# Altium schematic symbol library AD9914BCPZ.SchLib: 1 symbol
Pins are listed as number, name and electrical type; pins without a type are passive.

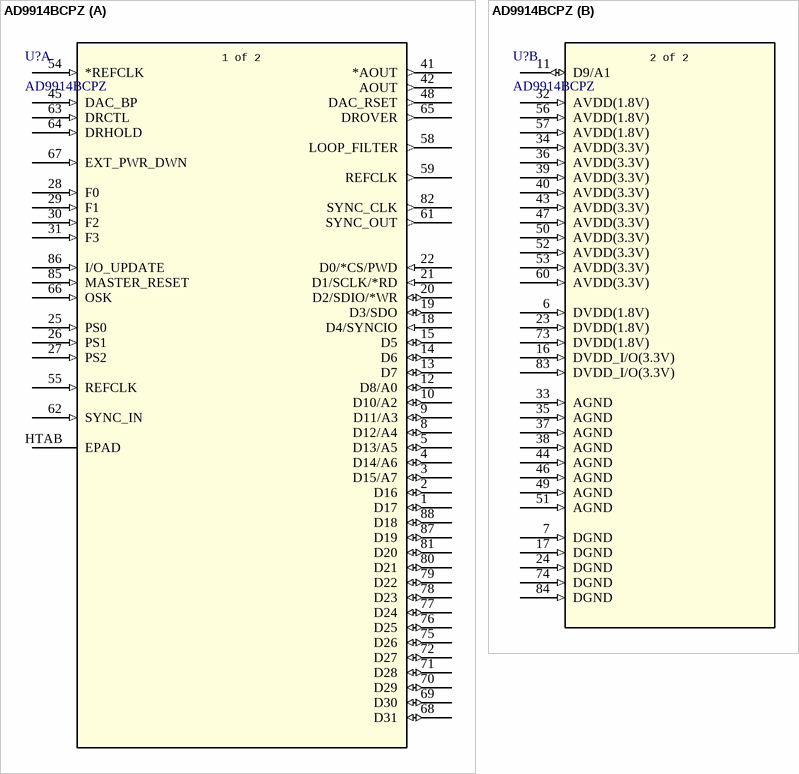
[diagram p0: symbol AD9914BCPZ]

## AD9914BCPZ
designator U?
3.5 GSPS Direct Digital Synthesizer with 12-bit DAC; Manufacturer_Name: Analog Devices Inc; Copyright: Copyright (C) 2026 Ultra Librarian. All rights reserved.; Manufacturer_Part_Number: AD9914BCPZ; Datasheet: https://www.analog.com/media/en/technical-documentation/data-sheets/AD9914.pdf; RefDes: RefDes; Type: Type
footprint CP_88_5_ADI
part A pins: 1 D17 (io), 2 D16 (io), 3 D15/A7 (io), 4 D14/A6 (io), 5 D13/A5 (io), 8 D12/A4 (io), 9 D11/A3 (io), 10 D10/A2 (io), 12 D8/A0 (io), 13 D7 (io), 14 D6 (io), 15 D5 (io), 18 D4/SYNCIO (in), 19 D3/SDO (io), 20 D2/SDIO/*WR (io), 21 D1/SCLK/*RD (in), 22 D0/*CS/PWD (in), 25 PS0 (in), 26 PS1 (in), 27 PS2 (in), 28 F0 (in), 29 F1 (in), 30 F2 (in), 31 F3 (in), 41 *AOUT (out), 42 AOUT (out), 45 DAC_BP (in), 48 DAC_RSET (out), 54 *REFCLK (in), 55 REFCLK (in), 58 LOOP_FILTER (out), 59 REFCLK (out), 61 SYNC_OUT (out), 62 SYNC_IN (in), 63 DRCTL (in), 64 DRHOLD (in), 65 DROVER (out), 66 OSK (in), 67 EXT_PWR_DWN (in), 68 D31 (io), 69 D30 (io), 70 D29 (io), 71 D28 (io), 72 D27 (io), 75 D26 (io), 76 D25 (io), 77 D24 (io), 78 D23 (io), 79 D22 (io), 80 D21 (io), 81 D20 (io), 82 SYNC_CLK (out), 85 MASTER_RESET (in), 86 I/O_UPDATE (in), 87 D19 (io), 88 D18 (io), HTAB EPAD
part B pins: 6 DVDD(1.8V) (in), 7 DGND (in), 11 D9/A1 (io), 16 DVDD_I/O(3.3V) (in), 17 DGND (in), 23 DVDD(1.8V) (in), 24 DGND (in), 32 AVDD(1.8V) (in), 33 AGND (in), 34 AVDD(3.3V) (in), 35 AGND (in), 36 AVDD(3.3V) (in), 37 AGND (in), 38 AGND (in), 39 AVDD(3.3V) (in), 40 AVDD(3.3V) (in), 43 AVDD(3.3V) (in), 44 AGND (in), 46 AGND (in), 47 AVDD(3.3V) (in), 49 AGND (in), 50 AVDD(3.3V) (in), 51 AGND (in), 52 AVDD(3.3V) (in), 53 AVDD(3.3V) (in), 56 AVDD(1.8V) (in), 57 AVDD(1.8V) (in), 60 AVDD(3.3V) (in), 73 DVDD(1.8V) (in), 74 DGND (in), 83 DVDD_I/O(3.3V) (in), 84 DGND (in)
part A text: 1 of 2
part B text: 2 of 2